# Altium integrated library POWER-INDUCTOR-2MH.IntLib: 1 symbol
Pins are listed as number, name and electrical type; pins without a type are passive.

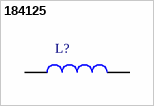
[diagram p0: symbol 184125]

## 184125
designator L?, comment 2mH  (value not drawn)
THT Leaded Toroidal Line Choke, 2mH, 20A; Manufacturer Part Number: 7447010; Manufacturer: Wurth Elektronik; Match Code: WE-FI; DC Resistance Max: 0.225Ω; Inductance: 470µH; Rated Current: 1.6A; Category: Filter Chokes; ComponentLink1Description: Website Link; ComponentLink1URL: https://www.we-online.com/redexpert/article/7447010?ad; ComponentLink2Description: Datasheet Link; ComponentLink2URL: https://www.we-online.com/redexpert/spec/7447010?ad; Mount: Through Hole; Operating Temperature Max: 105°C; Operating Temperature Min: -40°C; Packaging: Tray; Length: 18.5mm; Width: 11.6mm; Height: 18.5mm
footprint 184125 (Leaded Toroidal Line Choke, 2-leads, body 52.5x24.5mm)
pins: 1, 2